# Altium schematic symbol library Operational_Amplifier.SchLib: 1 symbol
Pins are listed as number, name and electrical type; pins without a type are passive.

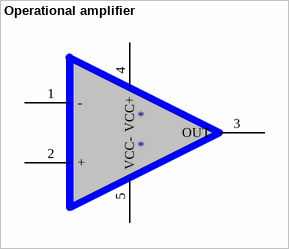
[diagram p0: symbol Operational amplifier]

## Operational amplifier
designator *
pins: 1 -, 2 +, 3 OUT, 4 VCC+, 5 VCC-